# Altium schematic symbol library test.SchLib: 1 symbol
Pins are listed as number, name and electrical type; pins without a type are passive.

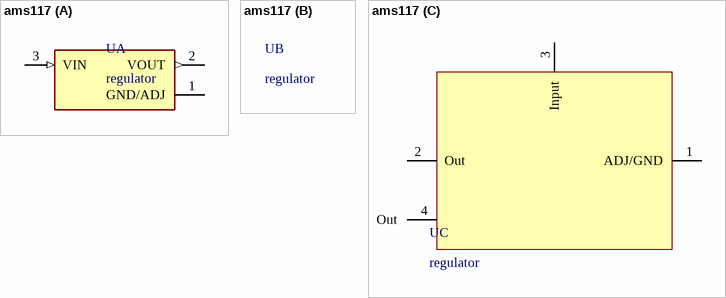
[diagram p0: symbol ams117]

## ams117
designator U, comment regulator
footprint PCBComponent_1
part A pins: 1 GND/ADJ (power), 2 VOUT (out), 3 VIN (in)
part C pins: 1 ADJ/GND, 2 Out, 3 Input, 4 Out